# Altium footprint library memory-hitachi.PCBLIB: 13 footprints
Each footprint in its own frame and in the unit in brackets; x right, y up, seen from the top. Pads: shape width x height; smd on the part's side, far side on the other; paste and mask are expansions set on the pad; w line width, h text height; cw(c..) or ccw(c..) is an arc to the next point about the centre after c.
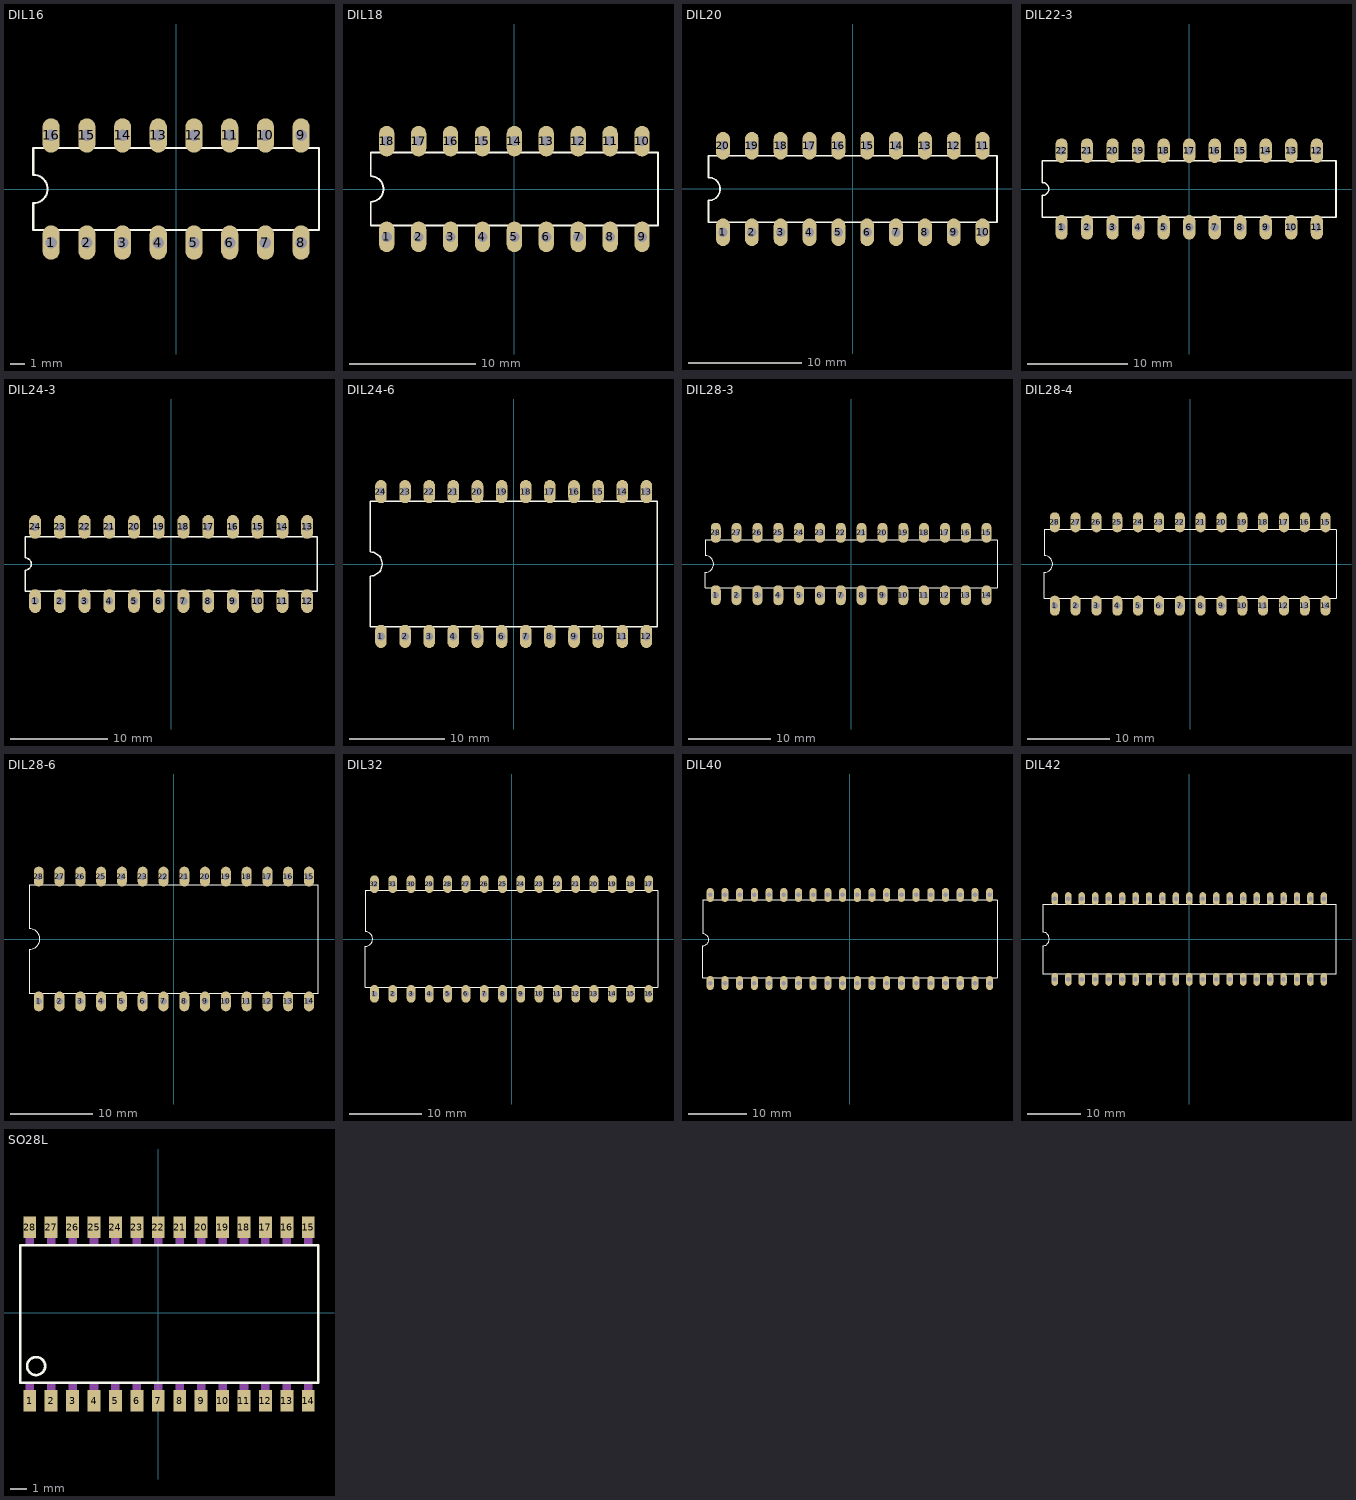
[diagram p0: the footprints below, top view; thin cyan lines are the x and y axes]

## DIL16 [mil]
pads (16):
  oval 48x96 hole 32: 1(-350,-150) 2(-250,-150) 3(-150,-150) 4(-50,-150) 5(50,-150) 6(150,-150) 7(250,-150) 8(350,-150) 9(350,150) 10(250,150) 11(150,150) 12(50,150) 13(-50,150) 14(-150,150) 15(-250,150) 16(-350,150)
Top Overlay:
  lines w6: -400,-115 400,-115 400,115 -400,115 -400,40 cw(c-400,0) -400,-40 -400,-115

## DIL18 [mil]
pads (18):
  oval 48x96 hole 32: 1(-400,-150) 2(-300,-150) 3(-200,-150) 4(-100,-150) 5(0,-150) 6(100,-150) 7(200,-150) 8(300,-150) 9(400,-150) 10(400,150) 11(300,150) 12(200,150) 13(100,150) 14(0,150) 15(-100,150) 16(-200,150) 17(-300,150) 18(-400,150)
Top Overlay:
  lines w6: -450,-115 450,-115 450,115 -450,115 -450,40 cw(c-450,0) -450,-40 -450,-115

## DIL20 [mil]
pads (20):
  oval 48x96 hole 32: 1(-450,-150) 2(-350,-150) 3(-250,-150) 4(-150,-150) 5(-50,-150) 6(50,-150) 7(150,-150) 8(250,-150) 9(350,-150) 10(450,-150) 11(450,150) 12(350,150) 13(250,150) 14(150,150) 15(50,150) 16(-50,150) 17(-150,150) 18(-250,150) 19(-350,150) 20(-450,150)
Top Overlay:
  lines w6: -500,-115 500,-115 500,115 -500,115 -500,40 cw(c-500,0) -500,-40 -500,-115

## DIL22-3 [mil]
pads (22):
  oval 48x96 hole 32: 1(-500,-150) 2(-400,-150) 3(-300,-150) 4(-200,-150) 5(-100,-150) 6(0,-150) 7(100,-150) 8(200,-150) 9(300,-150) 10(400,-150) 11(500,-150) 12(500,150) 13(400,150) 14(300,150) 15(200,150) 16(100,150) 17(0,150) 18(-100,150) 19(-200,150) 20(-300,150) 21(-400,150) 22(-500,150)
Top Overlay:
  lines w6: -575,-110 -575,-25 ccw(c-575,0) -575,25 -575,110 575,110 575,-110 -575,-110

## DIL24-3 [mil]
pads (24):
  oval 48x96 hole 32: 1(-550,-150) 2(-450,-150) 3(-350,-150) 4(-250,-150) 5(-150,-150) 6(-50,-150) 7(50,-150) 8(150,-150) 9(250,-150) 10(350,-150) 11(450,-150) 12(550,-150) 13(550,150) 14(450,150) 15(350,150) 16(250,150) 17(150,150) 18(50,150) 19(-50,150) 20(-150,150) 21(-250,150) 22(-350,150) 23(-450,150) 24(-550,150)
Top Overlay:
  lines w6: -590,-110 -590,-25 ccw(c-590,0) -590,25 -590,110 590,110 590,-110 -590,-110

## DIL24-6 [mil]
pads (24):
  oval 48x96 hole 32: 1(-550,-300) 2(-450,-300) 3(-350,-300) 4(-250,-300) 5(-150,-300) 6(-50,-300) 7(50,-300) 8(150,-300) 9(250,-300) 10(350,-300) 11(450,-300) 12(550,-300) 13(550,300) 14(450,300) 15(350,300) 16(250,300) 17(150,300) 18(50,300) 19(-50,300) 20(-150,300) 21(-250,300) 22(-350,300) 23(-450,300) 24(-550,300)
Top Overlay:
  lines w6: -595,-260 -595,-50 ccw(c-595,0) -595,50 -595,260 595,260 595,-260 -595,-260

## DIL28-3 [mil]
pads (28):
  oval 48x96 hole 32: 1(-650,-150) 2(-550,-150) 3(-450,-150) 4(-350,-150) 5(-250,-150) 6(-150,-150) 7(-50,-150) 8(50,-150) 9(150,-150) 10(250,-150) 11(350,-150) 12(450,-150) 13(550,-150) 14(650,-150) 15(650,150) 16(550,150) 17(450,150) 18(350,150) 19(250,150) 20(150,150) 21(50,150) 22(-50,150) 23(-150,150) 24(-250,150) 25(-350,150) 26(-450,150) 27(-550,150) 28(-650,150)
Top Overlay:
  lines w6: -700,-115 700,-115 700,115 -700,115 -700,40 cw(c-700,0) -700,-40 -700,-115

## DIL28-4 [mil]
pads (28):
  oval 48x96 hole 32: 1(-650,-200) 2(-550,-200) 3(-450,-200) 4(-350,-200) 5(-250,-200) 6(-150,-200) 7(-50,-200) 8(50,-200) 9(150,-200) 10(250,-200) 11(350,-200) 12(450,-200) 13(550,-200) 14(650,-200) 15(650,200) 16(550,200) 17(450,200) 18(350,200) 19(250,200) 20(150,200) 21(50,200) 22(-50,200) 23(-150,200) 24(-250,200) 25(-350,200) 26(-450,200) 27(-550,200) 28(-650,200)
Top Overlay:
  lines w6: -700,-165 700,-165 700,165 -700,165 -700,40 cw(c-700,0) -700,-40 -700,-165

## DIL28-6 [mil]
pads (28):
  oval 48x96 hole 32: 1(-650,-300) 2(-550,-300) 3(-450,-300) 4(-350,-300) 5(-250,-300) 6(-150,-300) 7(-50,-300) 8(50,-300) 9(150,-300) 10(250,-300) 11(350,-300) 12(450,-300) 13(550,-300) 14(650,-300) 15(650,300) 16(550,300) 17(450,300) 18(350,300) 19(250,300) 20(150,300) 21(50,300) 22(-50,300) 23(-150,300) 24(-250,300) 25(-350,300) 26(-450,300) 27(-550,300) 28(-650,300)
Top Overlay:
  lines w6: -695,-260 -695,-50 ccw(c-695,0) -695,50 -695,260 695,260 695,-260 -695,-260

## DIL32 [mil]
pads (32):
  oval 48x96 hole 32: 1(-750,-300) 2(-650,-300) 3(-550,-300) 4(-450,-300) 5(-350,-300) 6(-250,-300) 7(-150,-300) 8(-50,-300) 9(50,-300) 10(150,-300) 11(250,-300) 12(350,-300) 13(450,-300) 14(550,-300) 15(650,-300) 16(750,-300) 17(750,300) 18(650,300) 19(550,300) 20(450,300) 21(350,300) 22(250,300) 23(150,300) 24(50,300) 25(-50,300) 26(-150,300) 27(-250,300) 28(-350,300) 29(-450,300) 30(-550,300) 31(-650,300) 32(-750,300)
Top Overlay:
  lines w6: -800,-265 800,-265 800,265 -800,265 -800,40 cw(c-800,0) -800,-40 -800,-265

## DIL40 [mil]
pads (40):
  oval 48x96 hole 32: 1(-950,-300) 2(-850,-300) 3(-750,-300) 4(-650,-300) 5(-550,-300) 6(-450,-300) 7(-350,-300) 8(-250,-300) 9(-150,-300) 10(-50,-300) 11(50,-300) 12(150,-300) 13(250,-300) 14(350,-300) 15(450,-300) 16(550,-300) 17(650,-300) 18(750,-300) 19(850,-300) 20(950,-300) 21(950,300) 22(850,300) 23(750,300) 24(650,300) 25(550,300) 26(450,300) 27(350,300) 28(250,300) 29(150,300) 30(50,300) 31(-50,300) 32(-150,300) 33(-250,300) 34(-350,300) 35(-450,300) 36(-550,300) 37(-650,300) 38(-750,300) 39(-850,300) 40(-950,300)
Top Overlay:
  lines w6: -1000,-265 1000,-265 1000,265 -1000,265 -1000,35 cw(c-1000,-5) -1000,-45 -1000,-265

## DIL42 [mil]
pads (42):
  oval 48x96 hole 32: 1(-1000,-300) 2(-900,-300) 3(-800,-300) 4(-700,-300) 5(-600,-300) 6(-500,-300) 7(-400,-300) 8(-300,-300) 9(-200,-300) 10(-100,-300) 11(0,-300) 12(100,-300) 13(200,-300) 14(300,-300) 15(400,-300) 16(500,-300) 17(600,-300) 18(700,-300) 19(800,-300) 20(900,-300) 21(1000,-300) 22(1000,300) 23(900,300) 24(800,300) 25(700,300) 26(600,300) 27(500,300) 28(400,300) 29(300,300) 30(200,300) 31(100,300) 32(0,300) 33(-100,300) 34(-200,300) 35(-300,300) 36(-400,300) 37(-500,300) 38(-600,300) 39(-700,300) 40(-800,300) 41(-900,300) 42(-1000,300)
Top Overlay:
  lines w6: -1090,-260 -1090,-50 ccw(c-1090,0) -1090,50 -1090,260 1090,260 1090,-260 -1090,-260

## SO28L [mil]
pads (28):
  rect 30x50 smd: 1(-300,-205) 2(-250,-205) 3(-200,-205) 4(-150,-205) 5(-100,-205) 6(-50,-205) 7(0,-205) 8(50,-205) 9(100,-205) 10(150,-205) 11(200,-205) 12(250,-205) 13(300,-205) 14(350,-205) 15(350,200) 16(300,200) 17(250,200) 18(200,200) 19(150,200) 20(100,200) 21(50,200) 22(0,200) 23(-50,200) 24(-100,200) 25(-150,200) 26(-200,200) 27(-250,200) 28(-300,200)
Top Overlay:
  circle w6: c-285,-124 r21
  lines w6: -322,-163 373,-163 373,158 -322,158 -322,-163
Mechanical 16:
  rectangle: -310,-224 -290,-164
  rectangle: -260,-224 -240,-164
  rectangle: -210,-224 -190,-164
  rectangle: -160,-224 -140,-164
  rectangle: -110,-224 -90,-164
  rectangle: -60,-224 -40,-164
  rectangle: -10,-224 10,-164
  rectangle: 40,-224 60,-164
  rectangle: 90,-224 110,-164
  rectangle: 140,-224 160,-164
  rectangle: 190,-224 210,-164
  rectangle: 240,-224 260,-164
  rectangle: 290,-224 310,-164
  rectangle: 340,-224 360,-164
  rectangle: 340,159 360,219
  rectangle: 290,159 310,219
  rectangle: 240,159 260,219
  rectangle: 190,159 210,219
  rectangle: 140,159 160,219
  rectangle: 90,159 110,219
  rectangle: 40,159 60,219
  rectangle: -10,159 10,219
  rectangle: -60,159 -40,219
  rectangle: -110,159 -90,219
  rectangle: -160,159 -140,219
  rectangle: -210,159 -190,219
  rectangle: -260,159 -240,219
  rectangle: -310,159 -290,219